# EAGLE library part X-BEE (library GoatFinder)
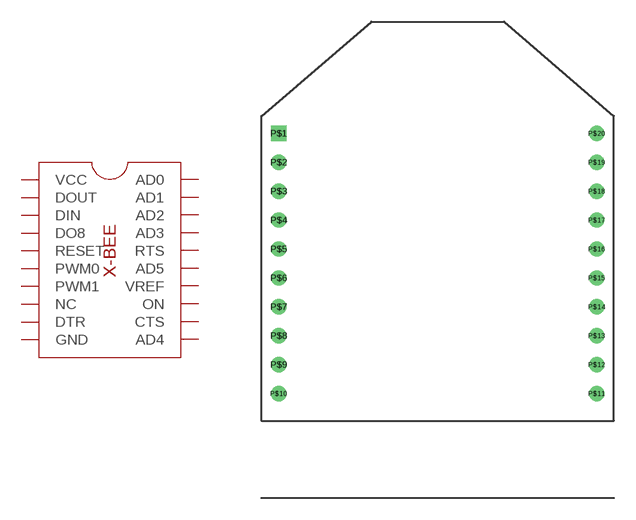
[diagram p4: symbol with the pads of X-BEE; footprint X-BEE]

Designator prefix -

## X-BEE  [X-BEE]
P$1  VCC
P$2  DOUT
P$3  DIN
P$4  DO8
P$5  RESET
P$6  PWM0
P$7  PWM1
P$8  NC
P$9  DTR
P$10  GND
P$11  AD4
P$12  CTS
P$13  ON
P$14  VREF
P$15  AD5
P$16  RTS
P$17  AD3
P$18  AD2
P$19  AD1
P$20  AD0

## Footprint X-BEE (pad centres in mm)
drill 0.55 square: P$1 -11,9
drill 0.55: P$2 -11,7; P$3 -11,5; P$4 -11,3; P$5 -11,1; P$6 -11,-1; P$7 -11,-3; P$8 -11,-5; P$9 -11,-7; P$10 -11,-9; P$11 11,-9; P$12 11,-7; P$13 11,-5; P$14 11,-3; P$15 11,-1; P$16 11,1; P$17 11,3; P$18 11,5; P$19 11,7; P$20 11,9